# Altium schematic symbol library openrex_addon_V1.SchLib: 13 symbols
Pins are listed as number, name and electrical type; pins without a type are passive.

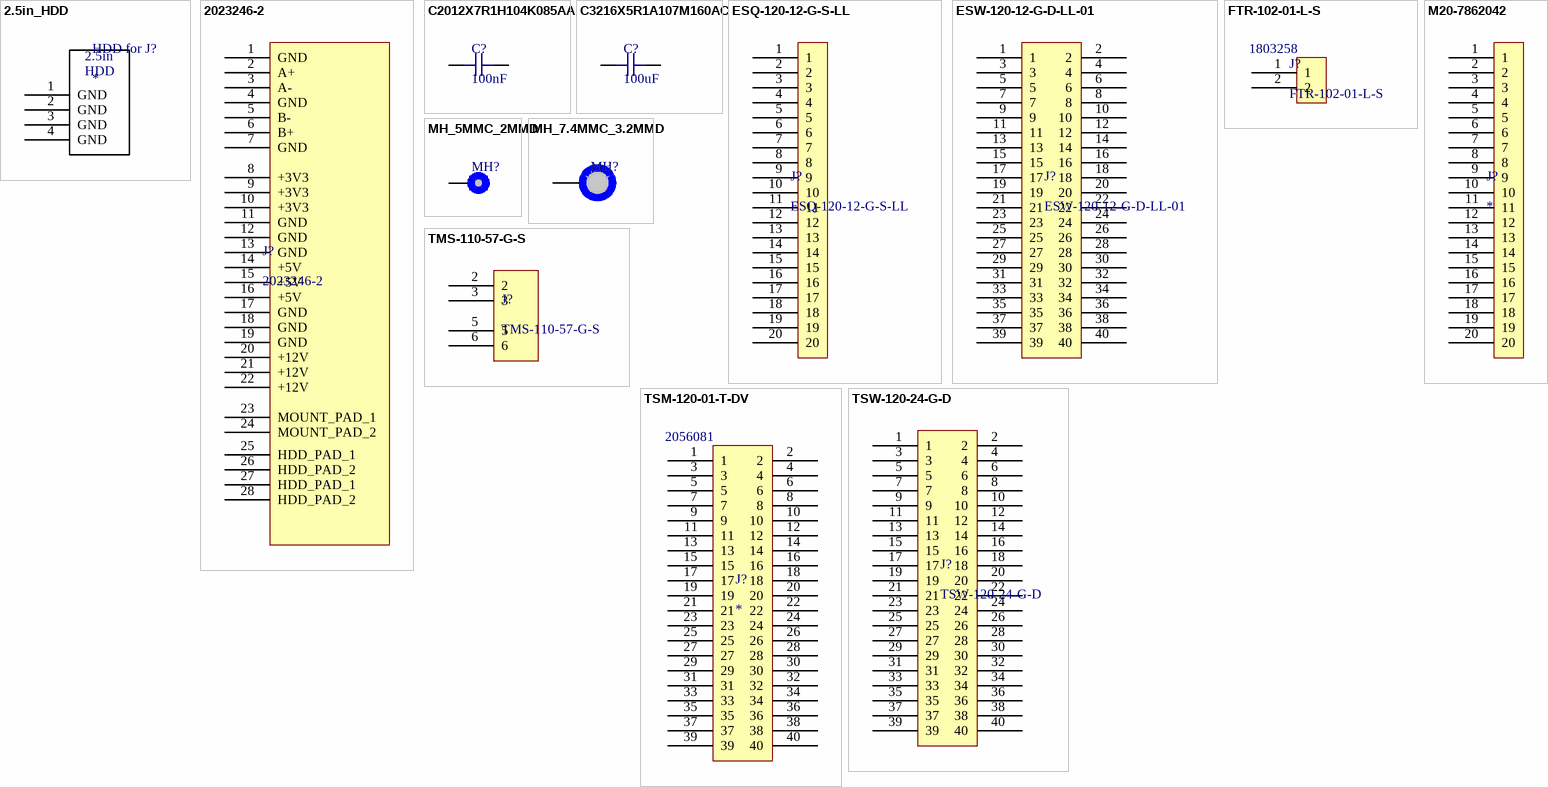
[diagram p0: symbols 2.5in_HDD to TSW-120-24-G-D]

## 2.5in_HDD
designator HDD for J?  (no BOM)
footprint 2.5in_HDD
pins: 1 GND, 2 GND, 3 GND, 4 GND
text: 2.5in; HDD

## 2023246-2
designator J?
CONN RECEPT SATA 22POS R/A SMD; Manufacturer: TE Connectivity AMP Connectors; Connector Style: Receptacle; Number of Positions: 22; Supplier 1: Digi-Key; Manufacturer Part Number: 2023246-2; RoHS: RoHS Compliant; Category: Connectors, Interconnects; Stock 1: 695; Pricing 1: 1=2.64, 10=2.536, 50=2.2186, 100=2.113, 250=1.84884, 500=1.79602, 1000=1.5319, 2500=1.42625 (USD); Packaging: Tray; Part Status: Active; Connector Type: SATA; Mounting Type: Surface Mount, Right Angle; Termination: Solder; Features: Board Guide; Contact Finish: Gold; Contact Finish Thickness: 30µin (0.76µm); ComponentLink1URL: http://www.te.com/commerce/DocumentDelivery/DDEController?Action=srchrtrv&DocNm=2023246&DocType=Customer+Drawing&DocLang=English; ComponentLink1Description: http://www.te.com/commerce/DocumentDelivery/DDEController?Action=srchrtrv&DocNm=2023246&DocType=Customer+Drawing&DocLang=English; Supplier Part Number 1: A119693-ND
footprint SATA
pins: 1 GND, 2 A+, 3 A-, 4 GND, 5 B-, 6 B+, 7 GND, 8 +3V3, 9 +3V3, 10 +3V3, 11 GND, 12 GND, 13 GND, 14 +5V, 15 +5V, 16 +5V, 17 GND, 18 GND, 19 GND, 20 +12V, 21 +12V, 22 +12V, 23 MOUNT_PAD_1, 24 MOUNT_PAD_2, 25 HDD_PAD_1, 26 HDD_PAD_2, 27 HDD_PAD_1, 28 HDD_PAD_2

## C2012X7R1H104K085AA
designator C?, comment 100nF
CAP CER 0.1UF 50V X7R 0805; Manufacturer: TDK Corporation; Manufacturer Part Number: C2012X7R1H104K085AA; Capacitance: 0.1µF; Tolerance: ±10%; Supplier 1: Digi-Key; RoHS: RoHS Compliant; Category: Capacitors; Stock 1: 788153; Pricing 1: 1=0.11, 10=0.078, 25=0.0572, 50=0.0444, 100=0.0368, 250=0.03044, 500=0.02578, 1000=0.02134 (USD); Packaging: Cut Tape (CT); Part Status: Not For New Designs; Voltage - Rated: 50V; Temperature Coefficient: X7R; Operating Temperature: -55°C ~ 125°C; Features: Low ESL; Ratings: -; Applications: General Purpose; Failure Rate: -; Mounting Type: Surface Mount, MLCC; Package / Case: 0805 (2012 Metric); Size / Dimension: 0.079" L x 0.049" W (2.00mm x 1.25mm); Height - Seated (Max): -; Thickness (Max): 0.037" (0.95mm); Lead Spacing: -; Lead Style: -; ComponentLink1URL: https://product.tdk.com/info/en/catalog/datasheets/mlcc_commercial_general_en.pdf; ComponentLink1Description: https://product.tdk.com/info/en/catalog/datasheets/mlcc_commercial_general_en.pdf; Supplier Part Number 1: 445-7534-1-ND
footprint C0805
pins: 1, 2

## C3216X5R1A107M160AC
designator C?, comment 100uF
CAP CER 100UF 10V X5R 1206; Manufacturer: TDK Corporation; Manufacturer Part Number: C3216X5R1A107M160AC; Tolerance: ±20%; Supplier 1: Digi-Key; RoHS: RoHS Compliant; Category: Capacitors; Stock 1: 153116; Pricing 1: 1=1.59, 10=1.252, 100=0.9393, 500=0.70966, 1000=0.62618 (USD); Packaging: Cut Tape (CT); Part Status: Active; Voltage - Rated: 10V; Temperature Coefficient: X5R; Operating Temperature: -55°C ~ 85°C; Features: Low ESL; Ratings: -; Applications: General Purpose; Failure Rate: -; Mounting Type: Surface Mount, MLCC; Package / Case: 1206 (3216 Metric); Size / Dimension: 0.126" L x 0.063" W (3.20mm x 1.60mm); Height - Seated (Max): -; Thickness (Max): 0.075" (1.90mm); Lead Spacing: -; Lead Style: -; ComponentLink1URL: https://product.tdk.com/info/en/catalog/datasheets/mlcc_commercial_general_en.pdf; ComponentLink1Description: https://product.tdk.com/info/en/catalog/datasheets/mlcc_commercial_general_en.pdf; Supplier Part Number 1: 445-6007-1-ND
footprint C1206
pins: 1, 2

## ESQ-120-12-G-S-LL
designator J?
ELEVATED SOCKET STRIPS; Manufacturer: Samtec Inc.; Supplier 1: Digi-Key; Manufacturer Part Number: ESQ-120-12-G-S-LL; RoHS: RoHS Compliant; Category: Connectors, Interconnects; Stock 1: 0; Pricing 1: 1=4.99 (USD); Part Status: Active; Supplier Part Number 1: ESQ-120-12-G-S-LL-ND
footprint 20x1 2.54 Female
pins: 1, 2, 3, 4, 5, 6, 7, 8, 9, 10, 11, 12, 13, 14, 15, 16, 17, 18, 19, 20

## ESW-120-12-G-D-LL-01
designator J?
ELEVATED SOCKET STRIPS; Manufacturer: Samtec Inc.; Supplier 1: Digi-Key; Manufacturer Part Number: ESW-120-12-G-D-LL-01; RoHS: RoHS Compliant; Category: Connectors, Interconnects; Stock 1: 0; Pricing 1: 1=7.11 (USD); Part Status: Active; Supplier Part Number 1: ESW-120-12-G-D-LL-01-ND
footprint 20x2 2.54 Female
pins: 1, 2, 3, 4, 5, 6, 7, 8, 9, 10, 11, 12, 13, 14, 15, 16, 17, 18, 19, 20, 21, 22, 23, 24, 25, 26, 27, 28, 29, 30, 31, 32, 33, 34, 35, 36, 37, 38, 39, 40

## FTR-102-01-L-S
designator J?  Supplier Part Number 2: 1803258
SMT .050'' STRIPS; Manufacturer: Samtec Inc.; Connector Type: Header; Pitch - Mating: 0.050" (1.27mm); Style: Board to Board; Shrouding: Unshrouded; Number of Positions: 2; Number of Positions Loaded: All; Contact Length - Mating: 0.230" (5.84mm); Material Flammability Rating: UL94 V-0; Current Rating: 3.1A per Contact; Supplier 1: Digi-Key; Manufacturer Part Number: FTR-102-01-L-S; RoHS: RoHS Compliant; Category: Connectors, Interconnects; Stock 1: 0; Pricing 1: 1=0.44 (USD); Packaging: Tube; Part Status: Active; Contact Type: Male Pin; Number of Rows: 1; Row Spacing - Mating: -; Mounting Type: Surface Mount; Termination: Solder; Fastening Type: -; Contact Length - Post: -; Overall Contact Length: -; Insulation Height: 0.100" (2.54mm); Contact Shape: Square; Contact Finish - Mating: Gold; Contact Finish Thickness - Mating: 10µin (0.25µm); Contact Finish - Post: Tin; Contact Material: Phosphor Bronze; Insulation Material: Liquid Crystal Polymer (LCP); Features: -; Operating Temperature: -55°C ~ 125°C; Ingress Protection: -; Insulation Color: Black; Voltage Rating: -; Mated Stacking Heights: -; Contact Finish Thickness - Post: -; Applications: -; Supplier Part Number 1: FTR-102-01-L-S-ND; Supplier 2: Farnell
footprint SATA_SIGNAL
pins: 1, 2

## M20-7862042
designator J?
HARWIN - M20-7862042 - SOCKET, BOTTOM ENTRY, SMT, 20WAY; Pitch Spacing: 2.54; No. of Contacts: 20; Gender: Receptacle; Product Range: M20 Series; Contact Termination Type: Surface Mount; No. of Rows: 1; SVHC: No SVHC (12-Jan-2017); Contact Termination: Surface Mount Vertical; Current Rating: 3; External Length / Height: 7.1; Insulation Resistance: 1000; Proof Voltage: 600; Voltage Rating V AC: 500; Withstand Voltage: 1000V<!--FANDB--><div class="features-and-benefits-container"><div class="features-and-benefits-description"><span class="features-benefits-value">The M20-7862042 is a 20-contact 2.54mm female SIL Board-to-board Socket with gold plated phosphor bronze contacts, 100% tin over nickel plated termination and black UL94V-0 polyamide (nylon) 6T housing. The M20 series receptacle has vertical connector orientation, surface mount (SMT) connection type and dual entry style (bottom entry, top entry). It is suitable for use with 0.64mm square mating pin size. Suitable for interconnecting board to board. The socket is a box section design with a latch to locate and hold in an insulated housing.</span></div><div class="features-and-benefits-list"><ul class="features-and-benefits-list-list"><li class="features-and-benefits-list-item">3A Current rating</li><li class="features-and-benefits-list-item">20; Supplier 1: Farnell; Manufacturer: HARWIN; Manufacturer Part Number: M20-7862042; RoHS: YES; Stock 1: 2217; Pricing 1: 1=1.1, 25=1.09, 50=1.07, 100=1.06, 250=0.946, 500=0.753, 2000=0.703, 5000=0.667 (GBP); Contact Plating: Gold Plated Contacts; Contact Material: Phosphor Bronze; Colour: Black; Contact Resistance: 20; Flammability Rating: UL94V-0; Lead Spacing: 4.2; Length: 51.05; Material: Nylon 6; Operating Temperature Max: +105; Operating Temperature Min: -40; Termination Method: Solder; ComponentLink1URL: http://www.farnell.com/datasheets/1089497.pdf; ComponentLink1Description: http://www.farnell.com/datasheets/1089497.pdf; ComponentLink2URL: http://www.farnell.com/datasheets/1836954.pdf; ComponentLink2Description: http://www.farnell.com/datasheets/1836954.pdf; Supplier Part Number 1: 1256661
footprint 20x1 2.54 Female SMD
pins: 1, 2, 3, 4, 5, 6, 7, 8, 9, 10, 11, 12, 13, 14, 15, 16, 17, 18, 19, 20

## MH_5MMC_2MMD
designator MH?  (value not drawn)  (no BOM)
Mounting hole 7.4mm Diameter, 3.2 Drill
footprint MH_5MMD_3MMD
pins: 1

## MH_7.4MMC_3.2MMD
designator MH?  (value not drawn)  (no BOM)
Mounting hole 7.4mm Diameter, 3.2 Drill
footprint MH_7.4MMD_3.2MMD
pins: 1

## TMS-110-57-G-S
designator J?
HEADER 10 PIN SNL ROW GOLD; Manufacturer: Samtec Inc.; Pitch - Mating: 0.050" (1.27mm); Style: Board to Board; Shrouding: Unshrouded; Number of Positions: 10; Number of Positions Loaded: All; Contact Length - Mating: 0.430" (10.92mm); Contact Length - Post: 0.120" (3.05mm); Overall Contact Length: 0.650" (16.51mm); Material Flammability Rating: UL94 V-0; Current Rating: 5A per Contact; Supplier 1: Digi-Key; Manufacturer Part Number: TMS-110-57-G-S; RoHS: RoHS Compliant; Category: Connectors, Interconnects; Stock 1: 0; Pricing 1: 1=2.07 (USD); Packaging: Tube; Part Status: Active; Connector Type: Header; Contact Type: Male Pin; Number of Rows: 1; Row Spacing - Mating: -; Mounting Type: Through Hole; Termination: Solder; Fastening Type: -; Insulation Height: 0.100" (2.54mm); Contact Shape: Square; Contact Finish - Mating: Gold; Contact Finish Thickness - Mating: 10µin (0.25µm); Contact Finish - Post: Gold; Contact Material: Phosphor Bronze; Insulation Material: Liquid Crystal Polymer (LCP); Features: -; Operating Temperature: -55°C ~ 125°C; Ingress Protection: -; Insulation Color: Black; Voltage Rating: -; Mated Stacking Heights: -; Contact Finish Thickness - Post: 3µin (0.08µm); Applications: -; ComponentLink1URL: http://suddendocs.samtec.com/prints/tms-1xx-xx-xx-x-xx-xxx-mkt.pdf; ComponentLink1Description: http://suddendocs.samtec.com/prints/tms-1xx-xx-xx-x-xx-xxx-mkt.pdf; Supplier Part Number 1: TMS-110-57-G-S-ND
footprint Sata_custom
pins: 2, 3, 5, 6

## TSM-120-01-T-DV
designator J?  Supplier Part Number 2: 2056081
CONN HEADER 40POS .100" DBL SMD; Manufacturer: Samtec Inc.; Manufacturer Part Number: TSM-120-01-T-DV; Pitch - Mating: 0.100" (2.54mm); Style: Board to Board or Cable; Shrouding: Unshrouded; Number of Positions: 40; Number of Positions Loaded: All; Contact Length - Mating: 0.230" (5.84mm); Material Flammability Rating: UL94 V-0; Supplier 1: Digi-Key; RoHS: RoHS Compliant; Category: Connectors, Interconnects; Stock 1: 499; Pricing 1: 1=2.65, 10=2.544, 100=2.12, 500=1.802, 1000=1.537, 5000=1.378 (USD); Packaging: Tube; Part Status: Active; Connector Type: Header; Contact Type: Male Pin; Number of Rows: 2; Row Spacing - Mating: 0.100" (2.54mm); Mounting Type: Surface Mount; Termination: Solder; Fastening Type: -; Contact Length - Post: -; Overall Contact Length: -; Insulation Height: 0.100" (2.54mm); Contact Shape: Square; Contact Finish - Mating: Tin; Contact Finish Thickness - Mating: -; Contact Finish - Post: Tin; Contact Material: Phosphor Bronze; Insulation Material: Liquid Crystal Polymer (LCP); Features: -; Operating Temperature: -55°C ~ 105°C; Ingress Protection: -; Insulation Color: Black; Current Rating: -; Voltage Rating: -; Mated Stacking Heights: -; Contact Finish Thickness - Post: -; Applications: -; ComponentLink1URL: http://suddendocs.samtec.com/prints/tsm-1xx-xx-xxx-xx-x-xxx-x-mkt.pdf; ComponentLink1Description: http://suddendocs.samtec.com/prints/tsm-1xx-xx-xxx-xx-x-xxx-x-mkt.pdf; Supplier Part Number 1: SAM10823-ND; Supplier 2: Farnell
footprint 20x2 2.54 Male SMD
pins: 1, 2, 3, 4, 5, 6, 7, 8, 9, 10, 11, 12, 13, 14, 15, 16, 17, 18, 19, 20, 21, 22, 23, 24, 25, 26, 27, 28, 29, 30, 31, 32, 33, 34, 35, 36, 37, 38, 39, 40

## TSW-120-24-G-D
designator J?
SAMTEC - TSW-120-24-G-D - HEADER, 2.54MM, THT VERT, 40WAY; Pitch Spacing: 2.54; No. of Contacts: 40; Product Range: TSW Series; Contact Termination Type: Through Hole; No. of Rows: 2; SVHC: No SVHC (15-Jun-2015); Contact Termination: Through Hole Vertical; Row Pitch: 2.54mm<!--FANDB--><div class="features-and-benefits-container"><div class="features-and-benefits-description"><span class="features-benefits-value">The TSW series from Samtec are standard terminal strip headers. These are unshrouded through hole headers with 0.025" (0.635mm) square post and mates with Samtec SSW, SSQ, SSM, ESW, ESQ, BCS, BSW, CES, SLW, IDSD, IDSS, SMSD and SMSS series of connectors. TSW series connectors are available with industry's largest variety of standard pin counts, terminal lengths and are used where signal integrity and reliability is of major concern.</span></div><div class="features-and-benefits-list"><ul class="features-and-benefits-list-list"><li class="features-and-benefits-list-item">Orderable with single/dual/triple rows (-S/-D/-T/-Q option)</li><li class="features-and-benefits-list-item">Pitch spacing is 2.54mm (1 to 50 contacts per row) with straight orientation</li><li class="features-and-benefits-list-item">High operating temperature range of -55°C to 125°C for 10?" gold plated contacts</li><li class="features-and-benefits-list-item">Terminal material is phosphor bronze</li><li class="features-and-benefits-list-item">Black glass filled polyester insulator material</li><li class="features-and-benefits-list-item">Complies with UL E111594 and CSA 090871_0_000 standards</li><li class="features-and-benefits-list-item">Locking lead and locking clip feature is optional</li></ul></div><div class="features-and-benefits-applications"><ul class="features-and-benefits-value"><li class="features-and-benefits-list-item">Industrial</li></ul></div></div>; Supplier 1: Farnell; Manufacturer: SAMTEC; Manufacturer Part Number: TSW-120-24-G-D; RoHS: YES; Stock 1: 200; Pricing 1: 2=4.17, 10=2.86, 50=2.36, 100=2.17, 250=1.94, 500=1.7, 1000=1.53 (GBP); Gender: Header; Contact Plating: Gold Plated Contacts; Contact Material: Phosphor Bronze; ComponentLink1URL: http://www.farnell.com/datasheets/1701645.pdf; ComponentLink1Description: http://www.farnell.com/datasheets/1701645.pdf; ComponentLink2URL: http://www.farnell.com/datasheets/2060109.pdf; ComponentLink2Description: http://www.farnell.com/datasheets/2060109.pdf; ComponentLink3URL: http://www.farnell.com/cad/1528355.zip; ComponentLink3Description: http://www.farnell.com/cad/1528355.zip; Supplier Part Number 1: 2029724
footprint 20x2 2.54 Male
pins: 1, 2, 3, 4, 5, 6, 7, 8, 9, 10, 11, 12, 13, 14, 15, 16, 17, 18, 19, 20, 21, 22, 23, 24, 25, 26, 27, 28, 29, 30, 31, 32, 33, 34, 35, 36, 37, 38, 39, 40